# Altium schematic symbol library Converter_DCDC.SchLib: 947 symbols (part 3 of 12)
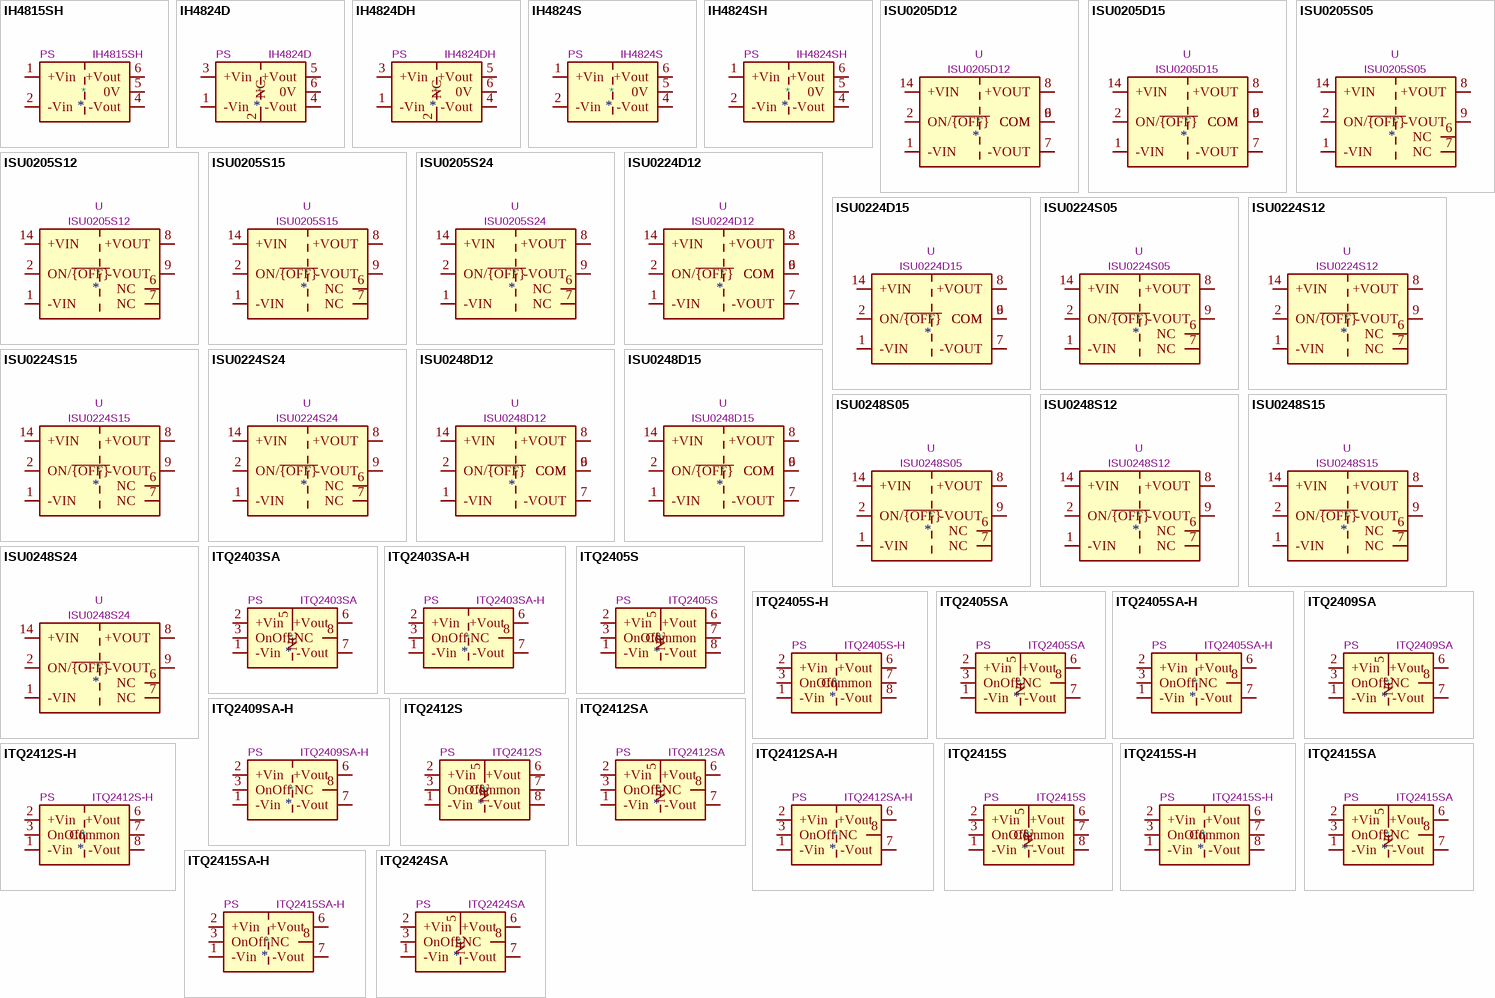
[diagram p25: symbols IH4815SH to ITQ2424SA]

## ISU0248S24
designator *  value ISU0248S24  Reference: U
XP Power 2W Isolated DC/DC Converter Module, 24V Output Voltage, 18-75V Input Voltage; ki_fp_filters: *XP?POWER*ISU02*SMD*; Footprint: Converter_DCDC:Converter_DCDC_XP_POWER-ISU02_SMD; Datasheet: https://www.xppower.com/Portals/0/pdfs/SF_ISU02.pdf; Description_: XP Power 2W Isolated DC/DC Converter Module, 24V Output Voltage, 18-75V Input Voltage; ki_keywords: DC/DC Converter
pins: 1 -VIN, 2 ON/~{{OFF}}, 6 NC, 7 NC, 8 +VOUT, 9 -VOUT, 14 +VIN

## ITQ2403SA
designator *  value ITQ2403SA  Reference: PS
XP Power 6W, 1000 VDC Isolated DC/DC Converter Module, Single Output Voltage 3.3V, ±1500mA, 24V Input Voltage, SIP; ki_keywords: XP_POWER DC/DC isolated Converter module; ki_fp_filters: *XP?POWER?ITxxxxx*; Footprint: Converter_DCDC:Converter_DCDC_XP_POWER-ITxxxxxS_THT; Datasheet: https://www.xppower.com/pdfs/SF_ITQ.pdf; Description_: XP Power 6W, 1000 VDC Isolated DC/DC Converter Module, Single Output Voltage 3.3V, ±1500mA, 24V Input Voltage, SIP
pins: 1 -Vin, 2 +Vin, 3 OnOff, 5 NC, 6 +Vout, 7 -Vout, 8 NC

## ITQ2403SA-H
designator *  value ITQ2403SA-H  Reference: PS
XP Power 6W, 3000 VDC Isolated DC/DC Converter Module, Single Output Voltage 3.3V, ±1500mA, 24V Input Voltage, SIP; ki_keywords: XP_POWER DC/DC isolated Converter module; ki_fp_filters: *XP?POWER?ITQxxxxS?H*; Footprint: Converter_DCDC:Converter_DCDC_XP_POWER-ITQxxxxS-H_THT; Datasheet: https://www.xppower.com/pdfs/SF_ITQ.pdf; Description_: XP Power 6W, 3000 VDC Isolated DC/DC Converter Module, Single Output Voltage 3.3V, ±1500mA, 24V Input Voltage, SIP
pins: 1 -Vin, 2 +Vin, 3 OnOff, 6 +Vout, 7 -Vout, 8 NC

## ITQ2405S
designator *  value ITQ2405S  Reference: PS
XP Power 6W, 1000 VDC Isolated DC/DC Converter Module, Dual Output Voltage ±5V, ±600mA, 24V Input Voltage, SIP; ki_keywords: XP_POWER DC/DC isolated Converter module; ki_fp_filters: *XP?POWER?ITxxxxx*; Footprint: Converter_DCDC:Converter_DCDC_XP_POWER-ITxxxxxS_THT; Datasheet: https://www.xppower.com/pdfs/SF_ITQ.pdf; Description_: XP Power 6W, 1000 VDC Isolated DC/DC Converter Module, Dual Output Voltage ±5V, ±600mA, 24V Input Voltage, SIP
pins: 1 -Vin, 2 +Vin, 3 OnOff, 5 NC, 6 +Vout, 7 Common, 8 -Vout

## ITQ2405S-H
designator *  value ITQ2405S-H  Reference: PS
XP Power 6W, 3000 VDC Isolated DC/DC Converter Module, Dual Output Voltage ±5V, ±600mA, 24V Input Voltage, SIP; ki_keywords: XP_POWER DC/DC isolated Converter module; ki_fp_filters: *XP?POWER?ITQxxxxS?H*; Footprint: Converter_DCDC:Converter_DCDC_XP_POWER-ITQxxxxS-H_THT; Datasheet: https://www.xppower.com/pdfs/SF_ITQ.pdf; Description_: XP Power 6W, 3000 VDC Isolated DC/DC Converter Module, Dual Output Voltage ±5V, ±600mA, 24V Input Voltage, SIP
pins: 1 -Vin, 2 +Vin, 3 OnOff, 6 +Vout, 7 Common, 8 -Vout

## ITQ2405SA
designator *  value ITQ2405SA  Reference: PS
XP Power 6W, 1000 VDC Isolated DC/DC Converter Module, Single Output Voltage 5V, ±1200mA, 24V Input Voltage, SIP; ki_keywords: XP_POWER DC/DC isolated Converter module; ki_fp_filters: *XP?POWER?ITxxxxx*; Footprint: Converter_DCDC:Converter_DCDC_XP_POWER-ITxxxxxS_THT; Datasheet: https://www.xppower.com/pdfs/SF_ITQ.pdf; Description_: XP Power 6W, 1000 VDC Isolated DC/DC Converter Module, Single Output Voltage 5V, ±1200mA, 24V Input Voltage, SIP
pins: 1 -Vin, 2 +Vin, 3 OnOff, 5 NC, 6 +Vout, 7 -Vout, 8 NC

## ITQ2405SA-H
designator *  value ITQ2405SA-H  Reference: PS
XP Power 6W, 3000 VDC Isolated DC/DC Converter Module, Single Output Voltage 5V, ±1200mA, 24V Input Voltage, SIP; ki_keywords: XP_POWER DC/DC isolated Converter module; ki_fp_filters: *XP?POWER?ITQxxxxS?H*; Footprint: Converter_DCDC:Converter_DCDC_XP_POWER-ITQxxxxS-H_THT; Datasheet: https://www.xppower.com/pdfs/SF_ITQ.pdf; Description_: XP Power 6W, 3000 VDC Isolated DC/DC Converter Module, Single Output Voltage 5V, ±1200mA, 24V Input Voltage, SIP
pins: 1 -Vin, 2 +Vin, 3 OnOff, 6 +Vout, 7 -Vout, 8 NC

## ITQ2409SA
designator *  value ITQ2409SA  Reference: PS
XP Power 6W, 1000 VDC Isolated DC/DC Converter Module, Single Output Voltage 9V, ±666mA, 24V Input Voltage, SIP; ki_keywords: XP_POWER DC/DC isolated Converter module; ki_fp_filters: *XP?POWER?ITxxxxx*; Footprint: Converter_DCDC:Converter_DCDC_XP_POWER-ITxxxxxS_THT; Datasheet: https://www.xppower.com/pdfs/SF_ITQ.pdf; Description_: XP Power 6W, 1000 VDC Isolated DC/DC Converter Module, Single Output Voltage 9V, ±666mA, 24V Input Voltage, SIP
pins: 1 -Vin, 2 +Vin, 3 OnOff, 5 NC, 6 +Vout, 7 -Vout, 8 NC

## ITQ2409SA-H
designator *  value ITQ2409SA-H  Reference: PS
XP Power 6W, 3000 VDC Isolated DC/DC Converter Module, Single Output Voltage 9V, ±666mA, 24V Input Voltage, SIP; ki_keywords: XP_POWER DC/DC isolated Converter module; ki_fp_filters: *XP?POWER?ITQxxxxS?H*; Footprint: Converter_DCDC:Converter_DCDC_XP_POWER-ITQxxxxS-H_THT; Datasheet: https://www.xppower.com/pdfs/SF_ITQ.pdf; Description_: XP Power 6W, 3000 VDC Isolated DC/DC Converter Module, Single Output Voltage 9V, ±666mA, 24V Input Voltage, SIP
pins: 1 -Vin, 2 +Vin, 3 OnOff, 6 +Vout, 7 -Vout, 8 NC

## ITQ2412S
designator *  value ITQ2412S  Reference: PS
XP Power 6W, 1000 VDC Isolated DC/DC Converter Module, Dual Output Voltage ±12V, ±250mA, 24V Input Voltage, SIP; ki_keywords: XP_POWER DC/DC isolated Converter module; ki_fp_filters: *XP?POWER?ITxxxxx*; Footprint: Converter_DCDC:Converter_DCDC_XP_POWER-ITxxxxxS_THT; Datasheet: https://www.xppower.com/pdfs/SF_ITQ.pdf; Description_: XP Power 6W, 1000 VDC Isolated DC/DC Converter Module, Dual Output Voltage ±12V, ±250mA, 24V Input Voltage, SIP
pins: 1 -Vin, 2 +Vin, 3 OnOff, 5 NC, 6 +Vout, 7 Common, 8 -Vout

## ITQ2412S-H
designator *  value ITQ2412S-H  Reference: PS
XP Power 6W, 3000 VDC Isolated DC/DC Converter Module, Dual Output Voltage ±12V, ±250mA, 24V Input Voltage, SIP; ki_keywords: XP_POWER DC/DC isolated Converter module; ki_fp_filters: *XP?POWER?ITQxxxxS?H*; Footprint: Converter_DCDC:Converter_DCDC_XP_POWER-ITQxxxxS-H_THT; Datasheet: https://www.xppower.com/pdfs/SF_ITQ.pdf; Description_: XP Power 6W, 3000 VDC Isolated DC/DC Converter Module, Dual Output Voltage ±12V, ±250mA, 24V Input Voltage, SIP
pins: 1 -Vin, 2 +Vin, 3 OnOff, 6 +Vout, 7 Common, 8 -Vout

## ITQ2412SA
designator *  value ITQ2412SA  Reference: PS
XP Power 6W, 1000 VDC Isolated DC/DC Converter Module, Single Output Voltage 12V, ±500mA, 24V Input Voltage, SIP; ki_keywords: XP_POWER DC/DC isolated Converter module; ki_fp_filters: *XP?POWER?ITxxxxx*; Footprint: Converter_DCDC:Converter_DCDC_XP_POWER-ITxxxxxS_THT; Datasheet: https://www.xppower.com/pdfs/SF_ITQ.pdf; Description_: XP Power 6W, 1000 VDC Isolated DC/DC Converter Module, Single Output Voltage 12V, ±500mA, 24V Input Voltage, SIP
pins: 1 -Vin, 2 +Vin, 3 OnOff, 5 NC, 6 +Vout, 7 -Vout, 8 NC

## ITQ2412SA-H
designator *  value ITQ2412SA-H  Reference: PS
XP Power 6W, 3000 VDC Isolated DC/DC Converter Module, Single Output Voltage 12V, ±500mA, 24V Input Voltage, SIP; ki_keywords: XP_POWER DC/DC isolated Converter module; ki_fp_filters: *XP?POWER?ITQxxxxS?H*; Footprint: Converter_DCDC:Converter_DCDC_XP_POWER-ITQxxxxS-H_THT; Datasheet: https://www.xppower.com/pdfs/SF_ITQ.pdf; Description_: XP Power 6W, 3000 VDC Isolated DC/DC Converter Module, Single Output Voltage 12V, ±500mA, 24V Input Voltage, SIP
pins: 1 -Vin, 2 +Vin, 3 OnOff, 6 +Vout, 7 -Vout, 8 NC

## ITQ2415S
designator *  value ITQ2415S  Reference: PS
XP Power 6W, 1000 VDC Isolated DC/DC Converter Module, Dual Output Voltage ±15V, ±200mA, 24V Input Voltage, SIP; ki_keywords: XP_POWER DC/DC isolated Converter module; ki_fp_filters: *XP?POWER?ITxxxxx*; Footprint: Converter_DCDC:Converter_DCDC_XP_POWER-ITxxxxxS_THT; Datasheet: https://www.xppower.com/pdfs/SF_ITQ.pdf; Description_: XP Power 6W, 1000 VDC Isolated DC/DC Converter Module, Dual Output Voltage ±15V, ±200mA, 24V Input Voltage, SIP
pins: 1 -Vin, 2 +Vin, 3 OnOff, 5 NC, 6 +Vout, 7 Common, 8 -Vout

## ITQ2415S-H
designator *  value ITQ2415S-H  Reference: PS
XP Power 6W, 3000 VDC Isolated DC/DC Converter Module, Dual Output Voltage ±15V, ±200mA, 24V Input Voltage, SIP; ki_keywords: XP_POWER DC/DC isolated Converter module; ki_fp_filters: *XP?POWER?ITQxxxxS?H*; Footprint: Converter_DCDC:Converter_DCDC_XP_POWER-ITQxxxxS-H_THT; Datasheet: https://www.xppower.com/pdfs/SF_ITQ.pdf; Description_: XP Power 6W, 3000 VDC Isolated DC/DC Converter Module, Dual Output Voltage ±15V, ±200mA, 24V Input Voltage, SIP
pins: 1 -Vin, 2 +Vin, 3 OnOff, 6 +Vout, 7 Common, 8 -Vout

## ITQ2415SA
designator *  value ITQ2415SA  Reference: PS
XP Power 6W, 1000 VDC Isolated DC/DC Converter Module, Single Output Voltage 15V, ±400mA, 24V Input Voltage, SIP; ki_keywords: XP_POWER DC/DC isolated Converter module; ki_fp_filters: *XP?POWER?ITxxxxx*; Footprint: Converter_DCDC:Converter_DCDC_XP_POWER-ITxxxxxS_THT; Datasheet: https://www.xppower.com/pdfs/SF_ITQ.pdf; Description_: XP Power 6W, 1000 VDC Isolated DC/DC Converter Module, Single Output Voltage 15V, ±400mA, 24V Input Voltage, SIP
pins: 1 -Vin, 2 +Vin, 3 OnOff, 5 NC, 6 +Vout, 7 -Vout, 8 NC

## ITQ2415SA-H
designator *  value ITQ2415SA-H  Reference: PS
XP Power 6W, 3000 VDC Isolated DC/DC Converter Module, Single Output Voltage 15V, ±400mA, 24V Input Voltage, SIP; ki_keywords: XP_POWER DC/DC isolated Converter module; ki_fp_filters: *XP?POWER?ITQxxxxS?H*; Footprint: Converter_DCDC:Converter_DCDC_XP_POWER-ITQxxxxS-H_THT; Datasheet: https://www.xppower.com/pdfs/SF_ITQ.pdf; Description_: XP Power 6W, 3000 VDC Isolated DC/DC Converter Module, Single Output Voltage 15V, ±400mA, 24V Input Voltage, SIP
pins: 1 -Vin, 2 +Vin, 3 OnOff, 6 +Vout, 7 -Vout, 8 NC

## ITQ2424SA
designator *  value ITQ2424SA  Reference: PS
XP Power 6W, 1000 VDC Isolated DC/DC Converter Module, Single Output Voltage 24V, ±250mA, 24V Input Voltage, SIP; ki_keywords: XP_POWER DC/DC isolated Converter module; ki_fp_filters: *XP?POWER?ITxxxxx*; Footprint: Converter_DCDC:Converter_DCDC_XP_POWER-ITxxxxxS_THT; Datasheet: https://www.xppower.com/pdfs/SF_ITQ.pdf; Description_: XP Power 6W, 1000 VDC Isolated DC/DC Converter Module, Single Output Voltage 24V, ±250mA, 24V Input Voltage, SIP
pins: 1 -Vin, 2 +Vin, 3 OnOff, 5 NC, 6 +Vout, 7 -Vout, 8 NC

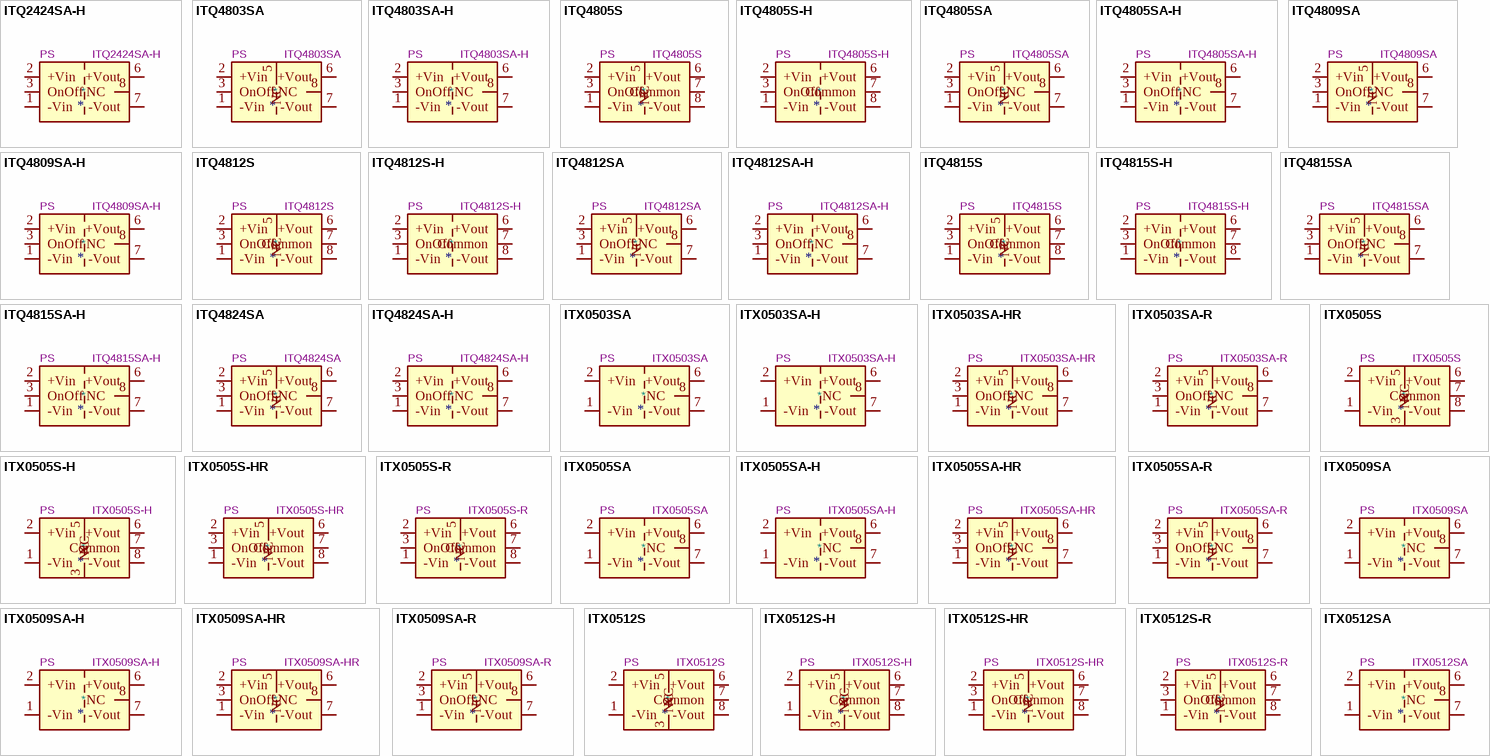
[diagram p5: symbols ITQ2424SA-H to ITX0512SA]

## ITQ2424SA-H
designator *  value ITQ2424SA-H  Reference: PS
XP Power 6W, 3000 VDC Isolated DC/DC Converter Module, Single Output Voltage 24V, ±250mA, 24V Input Voltage, SIP; ki_keywords: XP_POWER DC/DC isolated Converter module; ki_fp_filters: *XP?POWER?ITQxxxxS?H*; Footprint: Converter_DCDC:Converter_DCDC_XP_POWER-ITQxxxxS-H_THT; Datasheet: https://www.xppower.com/pdfs/SF_ITQ.pdf; Description_: XP Power 6W, 3000 VDC Isolated DC/DC Converter Module, Single Output Voltage 24V, ±250mA, 24V Input Voltage, SIP
pins: 1 -Vin, 2 +Vin, 3 OnOff, 6 +Vout, 7 -Vout, 8 NC

## ITQ4803SA
designator *  value ITQ4803SA  Reference: PS
XP Power 6W, 1000 VDC Isolated DC/DC Converter Module, Single Output Voltage 3.3V, ±1500mA, 48V Input Voltage, SIP; ki_keywords: XP_POWER DC/DC isolated Converter module; ki_fp_filters: *XP?POWER?ITxxxxx*; Footprint: Converter_DCDC:Converter_DCDC_XP_POWER-ITxxxxxS_THT; Datasheet: https://www.xppower.com/pdfs/SF_ITQ.pdf; Description_: XP Power 6W, 1000 VDC Isolated DC/DC Converter Module, Single Output Voltage 3.3V, ±1500mA, 48V Input Voltage, SIP
pins: 1 -Vin, 2 +Vin, 3 OnOff, 5 NC, 6 +Vout, 7 -Vout, 8 NC

## ITQ4803SA-H
designator *  value ITQ4803SA-H  Reference: PS
XP Power 6W, 3000 VDC Isolated DC/DC Converter Module, Single Output Voltage 3.3V, ±1500mA, 48V Input Voltage, SIP; ki_keywords: XP_POWER DC/DC isolated Converter module; ki_fp_filters: *XP?POWER?ITQxxxxS?H*; Footprint: Converter_DCDC:Converter_DCDC_XP_POWER-ITQxxxxS-H_THT; Datasheet: https://www.xppower.com/pdfs/SF_ITQ.pdf; Description_: XP Power 6W, 3000 VDC Isolated DC/DC Converter Module, Single Output Voltage 3.3V, ±1500mA, 48V Input Voltage, SIP
pins: 1 -Vin, 2 +Vin, 3 OnOff, 6 +Vout, 7 -Vout, 8 NC

## ITQ4805S
designator *  value ITQ4805S  Reference: PS
XP Power 6W, 1000 VDC Isolated DC/DC Converter Module, Dual Output Voltage ±5V, ±600mA, 48V Input Voltage, SIP; ki_keywords: XP_POWER DC/DC isolated Converter module; ki_fp_filters: *XP?POWER?ITxxxxx*; Footprint: Converter_DCDC:Converter_DCDC_XP_POWER-ITxxxxxS_THT; Datasheet: https://www.xppower.com/pdfs/SF_ITQ.pdf; Description_: XP Power 6W, 1000 VDC Isolated DC/DC Converter Module, Dual Output Voltage ±5V, ±600mA, 48V Input Voltage, SIP
pins: 1 -Vin, 2 +Vin, 3 OnOff, 5 NC, 6 +Vout, 7 Common, 8 -Vout

## ITQ4805S-H
designator *  value ITQ4805S-H  Reference: PS
XP Power 6W, 3000 VDC Isolated DC/DC Converter Module, Dual Output Voltage ±5V, ±600mA, 48V Input Voltage, SIP; ki_keywords: XP_POWER DC/DC isolated Converter module; ki_fp_filters: *XP?POWER?ITQxxxxS?H*; Footprint: Converter_DCDC:Converter_DCDC_XP_POWER-ITQxxxxS-H_THT; Datasheet: https://www.xppower.com/pdfs/SF_ITQ.pdf; Description_: XP Power 6W, 3000 VDC Isolated DC/DC Converter Module, Dual Output Voltage ±5V, ±600mA, 48V Input Voltage, SIP
pins: 1 -Vin, 2 +Vin, 3 OnOff, 6 +Vout, 7 Common, 8 -Vout

## ITQ4805SA
designator *  value ITQ4805SA  Reference: PS
XP Power 6W, 1000 VDC Isolated DC/DC Converter Module, Single Output Voltage 5V, ±1200mA, 48V Input Voltage, SIP; ki_keywords: XP_POWER DC/DC isolated Converter module; ki_fp_filters: *XP?POWER?ITxxxxx*; Footprint: Converter_DCDC:Converter_DCDC_XP_POWER-ITxxxxxS_THT; Datasheet: https://www.xppower.com/pdfs/SF_ITQ.pdf; Description_: XP Power 6W, 1000 VDC Isolated DC/DC Converter Module, Single Output Voltage 5V, ±1200mA, 48V Input Voltage, SIP
pins: 1 -Vin, 2 +Vin, 3 OnOff, 5 NC, 6 +Vout, 7 -Vout, 8 NC

## ITQ4805SA-H
designator *  value ITQ4805SA-H  Reference: PS
XP Power 6W, 3000 VDC Isolated DC/DC Converter Module, Single Output Voltage 5V, ±1200mA, 48V Input Voltage, SIP; ki_keywords: XP_POWER DC/DC isolated Converter module; ki_fp_filters: *XP?POWER?ITQxxxxS?H*; Footprint: Converter_DCDC:Converter_DCDC_XP_POWER-ITQxxxxS-H_THT; Datasheet: https://www.xppower.com/pdfs/SF_ITQ.pdf; Description_: XP Power 6W, 3000 VDC Isolated DC/DC Converter Module, Single Output Voltage 5V, ±1200mA, 48V Input Voltage, SIP
pins: 1 -Vin, 2 +Vin, 3 OnOff, 6 +Vout, 7 -Vout, 8 NC

## ITQ4809SA
designator *  value ITQ4809SA  Reference: PS
XP Power 6W, 1000 VDC Isolated DC/DC Converter Module, Single Output Voltage 9V, ±666mA, 48V Input Voltage, SIP; ki_keywords: XP_POWER DC/DC isolated Converter module; ki_fp_filters: *XP?POWER?ITxxxxx*; Footprint: Converter_DCDC:Converter_DCDC_XP_POWER-ITxxxxxS_THT; Datasheet: https://www.xppower.com/pdfs/SF_ITQ.pdf; Description_: XP Power 6W, 1000 VDC Isolated DC/DC Converter Module, Single Output Voltage 9V, ±666mA, 48V Input Voltage, SIP
pins: 1 -Vin, 2 +Vin, 3 OnOff, 5 NC, 6 +Vout, 7 -Vout, 8 NC

## ITQ4809SA-H
designator *  value ITQ4809SA-H  Reference: PS
XP Power 6W, 3000 VDC Isolated DC/DC Converter Module, Single Output Voltage 9V, ±666mA, 48V Input Voltage, SIP; ki_keywords: XP_POWER DC/DC isolated Converter module; ki_fp_filters: *XP?POWER?ITQxxxxS?H*; Footprint: Converter_DCDC:Converter_DCDC_XP_POWER-ITQxxxxS-H_THT; Datasheet: https://www.xppower.com/pdfs/SF_ITQ.pdf; Description_: XP Power 6W, 3000 VDC Isolated DC/DC Converter Module, Single Output Voltage 9V, ±666mA, 48V Input Voltage, SIP
pins: 1 -Vin, 2 +Vin, 3 OnOff, 6 +Vout, 7 -Vout, 8 NC

## ITQ4812S
designator *  value ITQ4812S  Reference: PS
XP Power 6W, 1000 VDC Isolated DC/DC Converter Module, Dual Output Voltage ±12V, ±250mA, 48V Input Voltage, SIP; ki_keywords: XP_POWER DC/DC isolated Converter module; ki_fp_filters: *XP?POWER?ITxxxxx*; Footprint: Converter_DCDC:Converter_DCDC_XP_POWER-ITxxxxxS_THT; Datasheet: https://www.xppower.com/pdfs/SF_ITQ.pdf; Description_: XP Power 6W, 1000 VDC Isolated DC/DC Converter Module, Dual Output Voltage ±12V, ±250mA, 48V Input Voltage, SIP
pins: 1 -Vin, 2 +Vin, 3 OnOff, 5 NC, 6 +Vout, 7 Common, 8 -Vout

## ITQ4812S-H
designator *  value ITQ4812S-H  Reference: PS
XP Power 6W, 3000 VDC Isolated DC/DC Converter Module, Dual Output Voltage ±12V, ±250mA, 48V Input Voltage, SIP; ki_keywords: XP_POWER DC/DC isolated Converter module; ki_fp_filters: *XP?POWER?ITQxxxxS?H*; Footprint: Converter_DCDC:Converter_DCDC_XP_POWER-ITQxxxxS-H_THT; Datasheet: https://www.xppower.com/pdfs/SF_ITQ.pdf; Description_: XP Power 6W, 3000 VDC Isolated DC/DC Converter Module, Dual Output Voltage ±12V, ±250mA, 48V Input Voltage, SIP
pins: 1 -Vin, 2 +Vin, 3 OnOff, 6 +Vout, 7 Common, 8 -Vout

## ITQ4812SA
designator *  value ITQ4812SA  Reference: PS
XP Power 6W, 1000 VDC Isolated DC/DC Converter Module, Single Output Voltage 12V, ±500mA, 48V Input Voltage, SIP; ki_keywords: XP_POWER DC/DC isolated Converter module; ki_fp_filters: *XP?POWER?ITxxxxx*; Footprint: Converter_DCDC:Converter_DCDC_XP_POWER-ITxxxxxS_THT; Datasheet: https://www.xppower.com/pdfs/SF_ITQ.pdf; Description_: XP Power 6W, 1000 VDC Isolated DC/DC Converter Module, Single Output Voltage 12V, ±500mA, 48V Input Voltage, SIP
pins: 1 -Vin, 2 +Vin, 3 OnOff, 5 NC, 6 +Vout, 7 -Vout, 8 NC

## ITQ4812SA-H
designator *  value ITQ4812SA-H  Reference: PS
XP Power 6W, 3000 VDC Isolated DC/DC Converter Module, Single Output Voltage 12V, ±500mA, 48V Input Voltage, SIP; ki_keywords: XP_POWER DC/DC isolated Converter module; ki_fp_filters: *XP?POWER?ITQxxxxS?H*; Footprint: Converter_DCDC:Converter_DCDC_XP_POWER-ITQxxxxS-H_THT; Datasheet: https://www.xppower.com/pdfs/SF_ITQ.pdf; Description_: XP Power 6W, 3000 VDC Isolated DC/DC Converter Module, Single Output Voltage 12V, ±500mA, 48V Input Voltage, SIP
pins: 1 -Vin, 2 +Vin, 3 OnOff, 6 +Vout, 7 -Vout, 8 NC

## ITQ4815S
designator *  value ITQ4815S  Reference: PS
XP Power 6W, 1000 VDC Isolated DC/DC Converter Module, Dual Output Voltage ±15V, ±200mA, 48V Input Voltage, SIP; ki_keywords: XP_POWER DC/DC isolated Converter module; ki_fp_filters: *XP?POWER?ITxxxxx*; Footprint: Converter_DCDC:Converter_DCDC_XP_POWER-ITxxxxxS_THT; Datasheet: https://www.xppower.com/pdfs/SF_ITQ.pdf; Description_: XP Power 6W, 1000 VDC Isolated DC/DC Converter Module, Dual Output Voltage ±15V, ±200mA, 48V Input Voltage, SIP
pins: 1 -Vin, 2 +Vin, 3 OnOff, 5 NC, 6 +Vout, 7 Common, 8 -Vout

## ITQ4815S-H
designator *  value ITQ4815S-H  Reference: PS
XP Power 6W, 3000 VDC Isolated DC/DC Converter Module, Dual Output Voltage ±15V, ±200mA, 48V Input Voltage, SIP; ki_keywords: XP_POWER DC/DC isolated Converter module; ki_fp_filters: *XP?POWER?ITQxxxxS?H*; Footprint: Converter_DCDC:Converter_DCDC_XP_POWER-ITQxxxxS-H_THT; Datasheet: https://www.xppower.com/pdfs/SF_ITQ.pdf; Description_: XP Power 6W, 3000 VDC Isolated DC/DC Converter Module, Dual Output Voltage ±15V, ±200mA, 48V Input Voltage, SIP
pins: 1 -Vin, 2 +Vin, 3 OnOff, 6 +Vout, 7 Common, 8 -Vout

## ITQ4815SA
designator *  value ITQ4815SA  Reference: PS
XP Power 6W, 1000 VDC Isolated DC/DC Converter Module, Single Output Voltage 15V, ±400mA, 48V Input Voltage, SIP; ki_keywords: XP_POWER DC/DC isolated Converter module; ki_fp_filters: *XP?POWER?ITxxxxx*; Footprint: Converter_DCDC:Converter_DCDC_XP_POWER-ITxxxxxS_THT; Datasheet: https://www.xppower.com/pdfs/SF_ITQ.pdf; Description_: XP Power 6W, 1000 VDC Isolated DC/DC Converter Module, Single Output Voltage 15V, ±400mA, 48V Input Voltage, SIP
pins: 1 -Vin, 2 +Vin, 3 OnOff, 5 NC, 6 +Vout, 7 -Vout, 8 NC

## ITQ4815SA-H
designator *  value ITQ4815SA-H  Reference: PS
XP Power 6W, 3000 VDC Isolated DC/DC Converter Module, Single Output Voltage 15V, ±400mA, 48V Input Voltage, SIP; ki_keywords: XP_POWER DC/DC isolated Converter module; ki_fp_filters: *XP?POWER?ITQxxxxS?H*; Footprint: Converter_DCDC:Converter_DCDC_XP_POWER-ITQxxxxS-H_THT; Datasheet: https://www.xppower.com/pdfs/SF_ITQ.pdf; Description_: XP Power 6W, 3000 VDC Isolated DC/DC Converter Module, Single Output Voltage 15V, ±400mA, 48V Input Voltage, SIP
pins: 1 -Vin, 2 +Vin, 3 OnOff, 6 +Vout, 7 -Vout, 8 NC

## ITQ4824SA
designator *  value ITQ4824SA  Reference: PS
XP Power 6W, 1000 VDC Isolated DC/DC Converter Module, Single Output Voltage 24V, ±250mA, 48V Input Voltage, SIP; ki_keywords: XP_POWER DC/DC isolated Converter module; ki_fp_filters: *XP?POWER?ITxxxxx*; Footprint: Converter_DCDC:Converter_DCDC_XP_POWER-ITxxxxxS_THT; Datasheet: https://www.xppower.com/pdfs/SF_ITQ.pdf; Description_: XP Power 6W, 1000 VDC Isolated DC/DC Converter Module, Single Output Voltage 24V, ±250mA, 48V Input Voltage, SIP
pins: 1 -Vin, 2 +Vin, 3 OnOff, 5 NC, 6 +Vout, 7 -Vout, 8 NC

## ITQ4824SA-H
designator *  value ITQ4824SA-H  Reference: PS
XP Power 6W, 3000 VDC Isolated DC/DC Converter Module, Single Output Voltage 24V, ±250mA, 48V Input Voltage, SIP; ki_keywords: XP_POWER DC/DC isolated Converter module; ki_fp_filters: *XP?POWER?ITQxxxxS?H*; Footprint: Converter_DCDC:Converter_DCDC_XP_POWER-ITQxxxxS-H_THT; Datasheet: https://www.xppower.com/pdfs/SF_ITQ.pdf; Description_: XP Power 6W, 3000 VDC Isolated DC/DC Converter Module, Single Output Voltage 24V, ±250mA, 48V Input Voltage, SIP
pins: 1 -Vin, 2 +Vin, 3 OnOff, 6 +Vout, 7 -Vout, 8 NC

## ITX0503SA
designator *  value ITX0503SA  Reference: PS
XP Power 6W, 1000 VDC Isolated DC/DC Converter Module, Fully Regulated Single Output Voltage 3.3V, ±1300mA, 5V Input Voltage, SIP; ki_keywords: XP_POWER DC/DC isolated Converter module; ki_fp_filters: *XP?POWER?ITXxxxxSA*; Footprint: Converter_DCDC:Converter_DCDC_XP_POWER-ITXxxxxSA_THT; Datasheet: https://www.xppower.com/pdfs/SF_ITX.pdf; Description_: XP Power 6W, 1000 VDC Isolated DC/DC Converter Module, Fully Regulated Single Output Voltage 3.3V, ±1300mA, 5V Input Voltage, SIP
pins: 1 -Vin, 2 +Vin, 6 +Vout, 7 -Vout, 8 NC

## ITX0503SA-H
designator *  value ITX0503SA-H  Reference: PS
XP Power 6W, 3000 VDC Isolated DC/DC Converter Module, Fully Regulated Single Output Voltage 3.3V, ±1300mA, 5V Input Voltage, SIP; ki_keywords: XP_POWER DC/DC isolated Converter module; ki_fp_filters: *XP?POWER?ITXxxxxSA*; Footprint: Converter_DCDC:Converter_DCDC_XP_POWER-ITXxxxxSA_THT; Datasheet: https://www.xppower.com/pdfs/SF_ITX.pdf; Description_: XP Power 6W, 3000 VDC Isolated DC/DC Converter Module, Fully Regulated Single Output Voltage 3.3V, ±1300mA, 5V Input Voltage, SIP
pins: 1 -Vin, 2 +Vin, 6 +Vout, 7 -Vout, 8 NC

## ITX0503SA-HR
designator *  value ITX0503SA-HR  Reference: PS
XP Power 6W, 3000 VDC Isolated DC/DC Converter Module, Remote Control, Fully Regulated Single Output Voltage 3.3V, ±1300mA, 5V Input Voltage, SIP; ki_keywords: XP_POWER DC/DC isolated Converter module; ki_fp_filters: *XP?POWER?ITxxxxx*; Footprint: Converter_DCDC:Converter_DCDC_XP_POWER-ITxxxxxS_THT; Datasheet: https://www.xppower.com/pdfs/SF_ITX.pdf; Description_: XP Power 6W, 3000 VDC Isolated DC/DC Converter Module, Remote Control, Fully Regulated Single Output Voltage 3.3V, ±1300mA, 5V Input Voltage, SIP
pins: 1 -Vin, 2 +Vin, 3 OnOff, 5 NC, 6 +Vout, 7 -Vout, 8 NC

## ITX0503SA-R
designator *  value ITX0503SA-R  Reference: PS
XP Power 6W, 1000 VDC Isolated DC/DC Converter Module, Remote Control, Fully Regulated Single Output Voltage 3.3V, ±1300mA, 5V Input Voltage, SIP; ki_keywords: XP_POWER DC/DC isolated Converter module; ki_fp_filters: *XP?POWER?ITxxxxx*; Footprint: Converter_DCDC:Converter_DCDC_XP_POWER-ITxxxxxS_THT; Datasheet: https://www.xppower.com/pdfs/SF_ITX.pdf; Description_: XP Power 6W, 1000 VDC Isolated DC/DC Converter Module, Remote Control, Fully Regulated Single Output Voltage 3.3V, ±1300mA, 5V Input Voltage, SIP
pins: 1 -Vin, 2 +Vin, 3 OnOff, 5 NC, 6 +Vout, 7 -Vout, 8 NC

## ITX0505S
designator *  value ITX0505S  Reference: PS
XP Power 6W, 1000 VDC Isolated DC/DC Converter Module, Fully Regulated Dual Output Voltage ±5V, ±600mA, 5V Input Voltage, SIP; ki_keywords: XP_POWER DC/DC isolated Converter module; ki_fp_filters: *XP?POWER?ITxxxxx*; Footprint: Converter_DCDC:Converter_DCDC_XP_POWER-ITxxxxxS_THT; Datasheet: https://www.xppower.com/pdfs/SF_ITX.pdf; Description_: XP Power 6W, 1000 VDC Isolated DC/DC Converter Module, Fully Regulated Dual Output Voltage ±5V, ±600mA, 5V Input Voltage, SIP
pins: 1 -Vin, 2 +Vin, 3 NC, 5 NC, 6 +Vout, 7 Common, 8 -Vout

## ITX0505S-H
designator *  value ITX0505S-H  Reference: PS
XP Power 6W, 3000 VDC Isolated DC/DC Converter Module, Fully Regulated Dual Output Voltage ±5V, ±600mA, 5V Input Voltage, SIP; ki_keywords: XP_POWER DC/DC isolated Converter module; ki_fp_filters: *XP?POWER?ITxxxxx*; Footprint: Converter_DCDC:Converter_DCDC_XP_POWER-ITxxxxxS_THT; Datasheet: https://www.xppower.com/pdfs/SF_ITX.pdf; Description_: XP Power 6W, 3000 VDC Isolated DC/DC Converter Module, Fully Regulated Dual Output Voltage ±5V, ±600mA, 5V Input Voltage, SIP
pins: 1 -Vin, 2 +Vin, 3 NC, 5 NC, 6 +Vout, 7 Common, 8 -Vout

## ITX0505S-HR
designator *  value ITX0505S-HR  Reference: PS
XP Power 6W, 3000 VDC Isolated DC/DC Converter Module, Remote Control, Fully Regulated Dual Output Voltage ±5V, ±600mA, 5V Input Voltage, SIP; ki_keywords: XP_POWER DC/DC isolated Converter module; ki_fp_filters: *XP?POWER?ITxxxxx*; Footprint: Converter_DCDC:Converter_DCDC_XP_POWER-ITxxxxxS_THT; Datasheet: https://www.xppower.com/pdfs/SF_ITX.pdf; Description_: XP Power 6W, 3000 VDC Isolated DC/DC Converter Module, Remote Control, Fully Regulated Dual Output Voltage ±5V, ±600mA, 5V Input Voltage, SIP
pins: 1 -Vin, 2 +Vin, 3 OnOff, 5 NC, 6 +Vout, 7 Common, 8 -Vout

## ITX0505S-R
designator *  value ITX0505S-R  Reference: PS
XP Power 6W, 1000 VDC Isolated DC/DC Converter Module, Remote Control, Fully Regulated Dual Output Voltage ±5V, ±600mA, 5V Input Voltage, SIP; ki_keywords: XP_POWER DC/DC isolated Converter module; ki_fp_filters: *XP?POWER?ITxxxxx*; Footprint: Converter_DCDC:Converter_DCDC_XP_POWER-ITxxxxxS_THT; Datasheet: https://www.xppower.com/pdfs/SF_ITX.pdf; Description_: XP Power 6W, 1000 VDC Isolated DC/DC Converter Module, Remote Control, Fully Regulated Dual Output Voltage ±5V, ±600mA, 5V Input Voltage, SIP
pins: 1 -Vin, 2 +Vin, 3 OnOff, 5 NC, 6 +Vout, 7 Common, 8 -Vout

## ITX0505SA
designator *  value ITX0505SA  Reference: PS
XP Power 6W, 1000 VDC Isolated DC/DC Converter Module, Fully Regulated Single Output Voltage 5V, ±1200mA, 5V Input Voltage, SIP; ki_keywords: XP_POWER DC/DC isolated Converter module; ki_fp_filters: *XP?POWER?ITXxxxxSA*; Footprint: Converter_DCDC:Converter_DCDC_XP_POWER-ITXxxxxSA_THT; Datasheet: https://www.xppower.com/pdfs/SF_ITX.pdf; Description_: XP Power 6W, 1000 VDC Isolated DC/DC Converter Module, Fully Regulated Single Output Voltage 5V, ±1200mA, 5V Input Voltage, SIP
pins: 1 -Vin, 2 +Vin, 6 +Vout, 7 -Vout, 8 NC

## ITX0505SA-H
designator *  value ITX0505SA-H  Reference: PS
XP Power 6W, 3000 VDC Isolated DC/DC Converter Module, Fully Regulated Single Output Voltage 5V, ±1200mA, 5V Input Voltage, SIP; ki_keywords: XP_POWER DC/DC isolated Converter module; ki_fp_filters: *XP?POWER?ITXxxxxSA*; Footprint: Converter_DCDC:Converter_DCDC_XP_POWER-ITXxxxxSA_THT; Datasheet: https://www.xppower.com/pdfs/SF_ITX.pdf; Description_: XP Power 6W, 3000 VDC Isolated DC/DC Converter Module, Fully Regulated Single Output Voltage 5V, ±1200mA, 5V Input Voltage, SIP
pins: 1 -Vin, 2 +Vin, 6 +Vout, 7 -Vout, 8 NC

## ITX0505SA-HR
designator *  value ITX0505SA-HR  Reference: PS
XP Power 6W, 3000 VDC Isolated DC/DC Converter Module, Remote Control, Fully Regulated Single Output Voltage 5V, ±1200mA, 5V Input Voltage, SIP; ki_keywords: XP_POWER DC/DC isolated Converter module; ki_fp_filters: *XP?POWER?ITxxxxx*; Footprint: Converter_DCDC:Converter_DCDC_XP_POWER-ITxxxxxS_THT; Datasheet: https://www.xppower.com/pdfs/SF_ITX.pdf; Description_: XP Power 6W, 3000 VDC Isolated DC/DC Converter Module, Remote Control, Fully Regulated Single Output Voltage 5V, ±1200mA, 5V Input Voltage, SIP
pins: 1 -Vin, 2 +Vin, 3 OnOff, 5 NC, 6 +Vout, 7 -Vout, 8 NC

## ITX0505SA-R
designator *  value ITX0505SA-R  Reference: PS
XP Power 6W, 1000 VDC Isolated DC/DC Converter Module, Remote Control, Fully Regulated Single Output Voltage 5V, ±1200mA, 5V Input Voltage, SIP; ki_keywords: XP_POWER DC/DC isolated Converter module; ki_fp_filters: *XP?POWER?ITxxxxx*; Footprint: Converter_DCDC:Converter_DCDC_XP_POWER-ITxxxxxS_THT; Datasheet: https://www.xppower.com/pdfs/SF_ITX.pdf; Description_: XP Power 6W, 1000 VDC Isolated DC/DC Converter Module, Remote Control, Fully Regulated Single Output Voltage 5V, ±1200mA, 5V Input Voltage, SIP
pins: 1 -Vin, 2 +Vin, 3 OnOff, 5 NC, 6 +Vout, 7 -Vout, 8 NC

## ITX0509SA
designator *  value ITX0509SA  Reference: PS
XP Power 6W, 1000 VDC Isolated DC/DC Converter Module, Fully Regulated Single Output Voltage 9V, ±666mA, 5V Input Voltage, SIP; ki_keywords: XP_POWER DC/DC isolated Converter module; ki_fp_filters: *XP?POWER?ITXxxxxSA*; Footprint: Converter_DCDC:Converter_DCDC_XP_POWER-ITXxxxxSA_THT; Datasheet: https://www.xppower.com/pdfs/SF_ITX.pdf; Description_: XP Power 6W, 1000 VDC Isolated DC/DC Converter Module, Fully Regulated Single Output Voltage 9V, ±666mA, 5V Input Voltage, SIP
pins: 1 -Vin, 2 +Vin, 6 +Vout, 7 -Vout, 8 NC

## ITX0509SA-H
designator *  value ITX0509SA-H  Reference: PS
XP Power 6W, 3000 VDC Isolated DC/DC Converter Module, Fully Regulated Single Output Voltage 9V, ±666mA, 5V Input Voltage, SIP; ki_keywords: XP_POWER DC/DC isolated Converter module; ki_fp_filters: *XP?POWER?ITXxxxxSA*; Footprint: Converter_DCDC:Converter_DCDC_XP_POWER-ITXxxxxSA_THT; Datasheet: https://www.xppower.com/pdfs/SF_ITX.pdf; Description_: XP Power 6W, 3000 VDC Isolated DC/DC Converter Module, Fully Regulated Single Output Voltage 9V, ±666mA, 5V Input Voltage, SIP
pins: 1 -Vin, 2 +Vin, 6 +Vout, 7 -Vout, 8 NC

## ITX0509SA-HR
designator *  value ITX0509SA-HR  Reference: PS
XP Power 6W, 3000 VDC Isolated DC/DC Converter Module, Remote Control, Fully Regulated Single Output Voltage 9V, ±666mA, 5V Input Voltage, SIP; ki_keywords: XP_POWER DC/DC isolated Converter module; ki_fp_filters: *XP?POWER?ITxxxxx*; Footprint: Converter_DCDC:Converter_DCDC_XP_POWER-ITxxxxxS_THT; Datasheet: https://www.xppower.com/pdfs/SF_ITX.pdf; Description_: XP Power 6W, 3000 VDC Isolated DC/DC Converter Module, Remote Control, Fully Regulated Single Output Voltage 9V, ±666mA, 5V Input Voltage, SIP
pins: 1 -Vin, 2 +Vin, 3 OnOff, 5 NC, 6 +Vout, 7 -Vout, 8 NC

## ITX0509SA-R
designator *  value ITX0509SA-R  Reference: PS
XP Power 6W, 1000 VDC Isolated DC/DC Converter Module, Remote Control, Fully Regulated Single Output Voltage 9V, ±666mA, 5V Input Voltage, SIP; ki_keywords: XP_POWER DC/DC isolated Converter module; ki_fp_filters: *XP?POWER?ITxxxxx*; Footprint: Converter_DCDC:Converter_DCDC_XP_POWER-ITxxxxxS_THT; Datasheet: https://www.xppower.com/pdfs/SF_ITX.pdf; Description_: XP Power 6W, 1000 VDC Isolated DC/DC Converter Module, Remote Control, Fully Regulated Single Output Voltage 9V, ±666mA, 5V Input Voltage, SIP
pins: 1 -Vin, 2 +Vin, 3 OnOff, 5 NC, 6 +Vout, 7 -Vout, 8 NC

## ITX0512S
designator *  value ITX0512S  Reference: PS
XP Power 6W, 1000 VDC Isolated DC/DC Converter Module, Fully Regulated Dual Output Voltage ±12V, ±250mA, 5V Input Voltage, SIP; ki_keywords: XP_POWER DC/DC isolated Converter module; ki_fp_filters: *XP?POWER?ITxxxxx*; Footprint: Converter_DCDC:Converter_DCDC_XP_POWER-ITxxxxxS_THT; Datasheet: https://www.xppower.com/pdfs/SF_ITX.pdf; Description_: XP Power 6W, 1000 VDC Isolated DC/DC Converter Module, Fully Regulated Dual Output Voltage ±12V, ±250mA, 5V Input Voltage, SIP
pins: 1 -Vin, 2 +Vin, 3 NC, 5 NC, 6 +Vout, 7 Common, 8 -Vout

## ITX0512S-H
designator *  value ITX0512S-H  Reference: PS
XP Power 6W, 3000 VDC Isolated DC/DC Converter Module, Fully Regulated Dual Output Voltage ±12V, ±250mA, 5V Input Voltage, SIP; ki_keywords: XP_POWER DC/DC isolated Converter module; ki_fp_filters: *XP?POWER?ITxxxxx*; Footprint: Converter_DCDC:Converter_DCDC_XP_POWER-ITxxxxxS_THT; Datasheet: https://www.xppower.com/pdfs/SF_ITX.pdf; Description_: XP Power 6W, 3000 VDC Isolated DC/DC Converter Module, Fully Regulated Dual Output Voltage ±12V, ±250mA, 5V Input Voltage, SIP
pins: 1 -Vin, 2 +Vin, 3 NC, 5 NC, 6 +Vout, 7 Common, 8 -Vout

## ITX0512S-HR
designator *  value ITX0512S-HR  Reference: PS
XP Power 6W, 3000 VDC Isolated DC/DC Converter Module, Remote Control, Fully Regulated Dual Output Voltage ±12V, ±250mA, 5V Input Voltage, SIP; ki_keywords: XP_POWER DC/DC isolated Converter module; ki_fp_filters: *XP?POWER?ITxxxxx*; Footprint: Converter_DCDC:Converter_DCDC_XP_POWER-ITxxxxxS_THT; Datasheet: https://www.xppower.com/pdfs/SF_ITX.pdf; Description_: XP Power 6W, 3000 VDC Isolated DC/DC Converter Module, Remote Control, Fully Regulated Dual Output Voltage ±12V, ±250mA, 5V Input Voltage, SIP
pins: 1 -Vin, 2 +Vin, 3 OnOff, 5 NC, 6 +Vout, 7 Common, 8 -Vout

## ITX0512S-R
designator *  value ITX0512S-R  Reference: PS
XP Power 6W, 1000 VDC Isolated DC/DC Converter Module, Remote Control, Fully Regulated Dual Output Voltage ±12V, ±250mA, 5V Input Voltage, SIP; ki_keywords: XP_POWER DC/DC isolated Converter module; ki_fp_filters: *XP?POWER?ITxxxxx*; Footprint: Converter_DCDC:Converter_DCDC_XP_POWER-ITxxxxxS_THT; Datasheet: https://www.xppower.com/pdfs/SF_ITX.pdf; Description_: XP Power 6W, 1000 VDC Isolated DC/DC Converter Module, Remote Control, Fully Regulated Dual Output Voltage ±12V, ±250mA, 5V Input Voltage, SIP
pins: 1 -Vin, 2 +Vin, 3 OnOff, 5 NC, 6 +Vout, 7 Common, 8 -Vout

## ITX0512SA
designator *  value ITX0512SA  Reference: PS
XP Power 6W, 1000 VDC Isolated DC/DC Converter Module, Fully Regulated Single Output Voltage 12V, ±500mA, 5V Input Voltage, SIP; ki_keywords: XP_POWER DC/DC isolated Converter module; ki_fp_filters: *XP?POWER?ITXxxxxSA*; Footprint: Converter_DCDC:Converter_DCDC_XP_POWER-ITXxxxxSA_THT; Datasheet: https://www.xppower.com/pdfs/SF_ITX.pdf; Description_: XP Power 6W, 1000 VDC Isolated DC/DC Converter Module, Fully Regulated Single Output Voltage 12V, ±500mA, 5V Input Voltage, SIP
pins: 1 -Vin, 2 +Vin, 6 +Vout, 7 -Vout, 8 NC

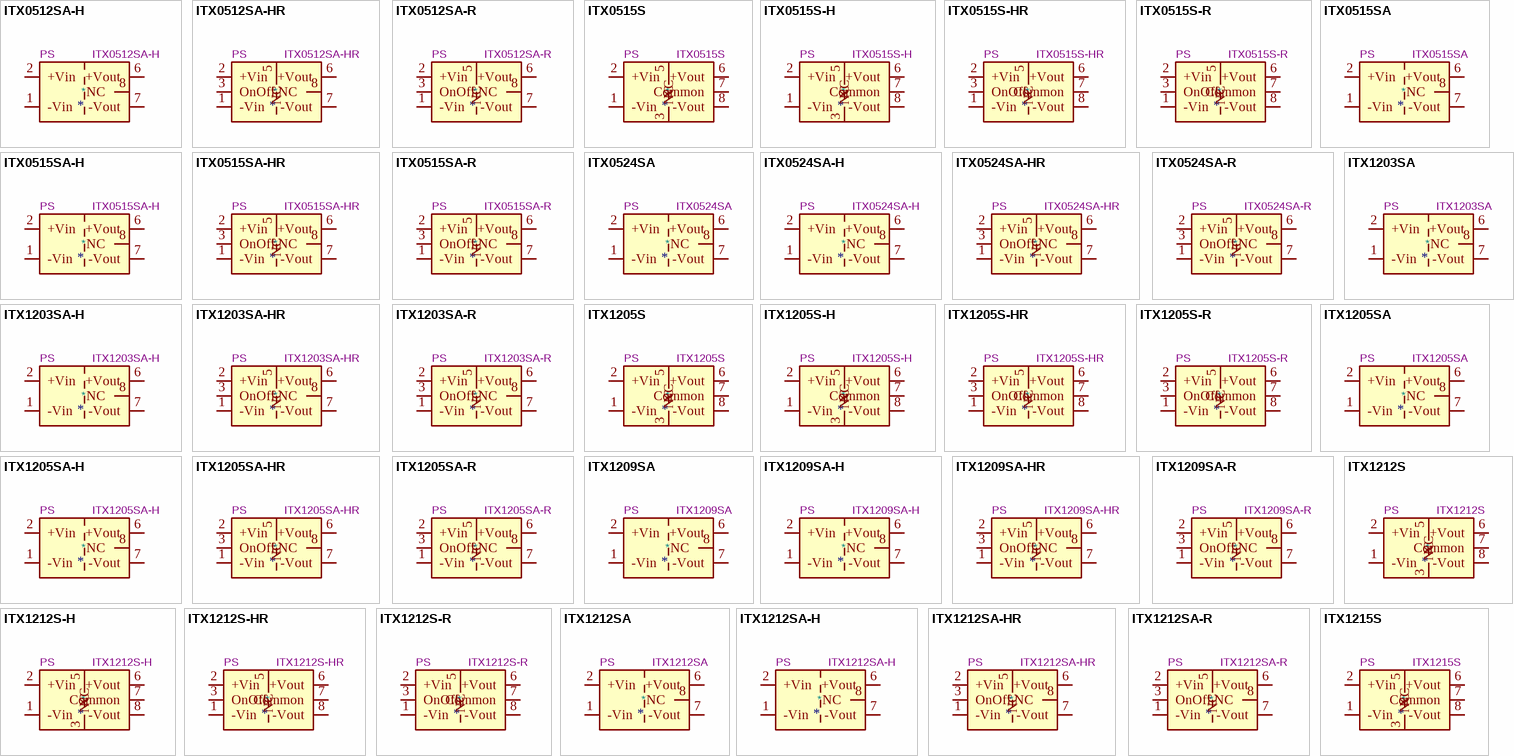
[diagram p6: symbols ITX0512SA-H to ITX1215S]

## ITX0512SA-H
designator *  value ITX0512SA-H  Reference: PS
XP Power 6W, 3000 VDC Isolated DC/DC Converter Module, Fully Regulated Single Output Voltage 12V, ±500mA, 5V Input Voltage, SIP; ki_keywords: XP_POWER DC/DC isolated Converter module; ki_fp_filters: *XP?POWER?ITXxxxxSA*; Footprint: Converter_DCDC:Converter_DCDC_XP_POWER-ITXxxxxSA_THT; Datasheet: https://www.xppower.com/pdfs/SF_ITX.pdf; Description_: XP Power 6W, 3000 VDC Isolated DC/DC Converter Module, Fully Regulated Single Output Voltage 12V, ±500mA, 5V Input Voltage, SIP
pins: 1 -Vin, 2 +Vin, 6 +Vout, 7 -Vout, 8 NC

## ITX0512SA-HR
designator *  value ITX0512SA-HR  Reference: PS
XP Power 6W, 3000 VDC Isolated DC/DC Converter Module, Remote Control, Fully Regulated Single Output Voltage 12V, ±500mA, 5V Input Voltage, SIP; ki_keywords: XP_POWER DC/DC isolated Converter module; ki_fp_filters: *XP?POWER?ITxxxxx*; Footprint: Converter_DCDC:Converter_DCDC_XP_POWER-ITxxxxxS_THT; Datasheet: https://www.xppower.com/pdfs/SF_ITX.pdf; Description_: XP Power 6W, 3000 VDC Isolated DC/DC Converter Module, Remote Control, Fully Regulated Single Output Voltage 12V, ±500mA, 5V Input Voltage, SIP
pins: 1 -Vin, 2 +Vin, 3 OnOff, 5 NC, 6 +Vout, 7 -Vout, 8 NC

## ITX0512SA-R
designator *  value ITX0512SA-R  Reference: PS
XP Power 6W, 1000 VDC Isolated DC/DC Converter Module, Remote Control, Fully Regulated Single Output Voltage 12V, ±500mA, 5V Input Voltage, SIP; ki_keywords: XP_POWER DC/DC isolated Converter module; ki_fp_filters: *XP?POWER?ITxxxxx*; Footprint: Converter_DCDC:Converter_DCDC_XP_POWER-ITxxxxxS_THT; Datasheet: https://www.xppower.com/pdfs/SF_ITX.pdf; Description_: XP Power 6W, 1000 VDC Isolated DC/DC Converter Module, Remote Control, Fully Regulated Single Output Voltage 12V, ±500mA, 5V Input Voltage, SIP
pins: 1 -Vin, 2 +Vin, 3 OnOff, 5 NC, 6 +Vout, 7 -Vout, 8 NC

## ITX0515S
designator *  value ITX0515S  Reference: PS
XP Power 6W, 1000 VDC Isolated DC/DC Converter Module, Fully Regulated Dual Output Voltage ±15V, ±200mA, 5V Input Voltage, SIP; ki_keywords: XP_POWER DC/DC isolated Converter module; ki_fp_filters: *XP?POWER?ITxxxxx*; Footprint: Converter_DCDC:Converter_DCDC_XP_POWER-ITxxxxxS_THT; Datasheet: https://www.xppower.com/pdfs/SF_ITX.pdf; Description_: XP Power 6W, 1000 VDC Isolated DC/DC Converter Module, Fully Regulated Dual Output Voltage ±15V, ±200mA, 5V Input Voltage, SIP
pins: 1 -Vin, 2 +Vin, 3 NC, 5 NC, 6 +Vout, 7 Common, 8 -Vout

## ITX0515S-H
designator *  value ITX0515S-H  Reference: PS
XP Power 6W, 3000 VDC Isolated DC/DC Converter Module, Fully Regulated Dual Output Voltage ±15V, ±200mA, 5V Input Voltage, SIP; ki_keywords: XP_POWER DC/DC isolated Converter module; ki_fp_filters: *XP?POWER?ITxxxxx*; Footprint: Converter_DCDC:Converter_DCDC_XP_POWER-ITxxxxxS_THT; Datasheet: https://www.xppower.com/pdfs/SF_ITX.pdf; Description_: XP Power 6W, 3000 VDC Isolated DC/DC Converter Module, Fully Regulated Dual Output Voltage ±15V, ±200mA, 5V Input Voltage, SIP
pins: 1 -Vin, 2 +Vin, 3 NC, 5 NC, 6 +Vout, 7 Common, 8 -Vout

## ITX0515S-HR
designator *  value ITX0515S-HR  Reference: PS
XP Power 6W, 3000 VDC Isolated DC/DC Converter Module, Remote Control, Fully Regulated Dual Output Voltage ±15V, ±200mA, 5V Input Voltage, SIP; ki_keywords: XP_POWER DC/DC isolated Converter module; ki_fp_filters: *XP?POWER?ITxxxxx*; Footprint: Converter_DCDC:Converter_DCDC_XP_POWER-ITxxxxxS_THT; Datasheet: https://www.xppower.com/pdfs/SF_ITX.pdf; Description_: XP Power 6W, 3000 VDC Isolated DC/DC Converter Module, Remote Control, Fully Regulated Dual Output Voltage ±15V, ±200mA, 5V Input Voltage, SIP
pins: 1 -Vin, 2 +Vin, 3 OnOff, 5 NC, 6 +Vout, 7 Common, 8 -Vout

## ITX0515S-R
designator *  value ITX0515S-R  Reference: PS
XP Power 6W, 1000 VDC Isolated DC/DC Converter Module, Remote Control, Fully Regulated Dual Output Voltage ±15V, ±200mA, 5V Input Voltage, SIP; ki_keywords: XP_POWER DC/DC isolated Converter module; ki_fp_filters: *XP?POWER?ITxxxxx*; Footprint: Converter_DCDC:Converter_DCDC_XP_POWER-ITxxxxxS_THT; Datasheet: https://www.xppower.com/pdfs/SF_ITX.pdf; Description_: XP Power 6W, 1000 VDC Isolated DC/DC Converter Module, Remote Control, Fully Regulated Dual Output Voltage ±15V, ±200mA, 5V Input Voltage, SIP
pins: 1 -Vin, 2 +Vin, 3 OnOff, 5 NC, 6 +Vout, 7 Common, 8 -Vout

## ITX0515SA
designator *  value ITX0515SA  Reference: PS
XP Power 6W, 1000 VDC Isolated DC/DC Converter Module, Fully Regulated Single Output Voltage 15V, ±400mA, 5V Input Voltage, SIP; ki_keywords: XP_POWER DC/DC isolated Converter module; ki_fp_filters: *XP?POWER?ITXxxxxSA*; Footprint: Converter_DCDC:Converter_DCDC_XP_POWER-ITXxxxxSA_THT; Datasheet: https://www.xppower.com/pdfs/SF_ITX.pdf; Description_: XP Power 6W, 1000 VDC Isolated DC/DC Converter Module, Fully Regulated Single Output Voltage 15V, ±400mA, 5V Input Voltage, SIP
pins: 1 -Vin, 2 +Vin, 6 +Vout, 7 -Vout, 8 NC

## ITX0515SA-H
designator *  value ITX0515SA-H  Reference: PS
XP Power 6W, 3000 VDC Isolated DC/DC Converter Module, Fully Regulated Single Output Voltage 15V, ±400mA, 5V Input Voltage, SIP; ki_keywords: XP_POWER DC/DC isolated Converter module; ki_fp_filters: *XP?POWER?ITXxxxxSA*; Footprint: Converter_DCDC:Converter_DCDC_XP_POWER-ITXxxxxSA_THT; Datasheet: https://www.xppower.com/pdfs/SF_ITX.pdf; Description_: XP Power 6W, 3000 VDC Isolated DC/DC Converter Module, Fully Regulated Single Output Voltage 15V, ±400mA, 5V Input Voltage, SIP
pins: 1 -Vin, 2 +Vin, 6 +Vout, 7 -Vout, 8 NC

## ITX0515SA-HR
designator *  value ITX0515SA-HR  Reference: PS
XP Power 6W, 3000 VDC Isolated DC/DC Converter Module, Remote Control, Fully Regulated Single Output Voltage 15V, ±400mA, 5V Input Voltage, SIP; ki_keywords: XP_POWER DC/DC isolated Converter module; ki_fp_filters: *XP?POWER?ITxxxxx*; Footprint: Converter_DCDC:Converter_DCDC_XP_POWER-ITxxxxxS_THT; Datasheet: https://www.xppower.com/pdfs/SF_ITX.pdf; Description_: XP Power 6W, 3000 VDC Isolated DC/DC Converter Module, Remote Control, Fully Regulated Single Output Voltage 15V, ±400mA, 5V Input Voltage, SIP
pins: 1 -Vin, 2 +Vin, 3 OnOff, 5 NC, 6 +Vout, 7 -Vout, 8 NC

## ITX0515SA-R
designator *  value ITX0515SA-R  Reference: PS
XP Power 6W, 1000 VDC Isolated DC/DC Converter Module, Remote Control, Fully Regulated Single Output Voltage 15V, ±400mA, 5V Input Voltage, SIP; ki_keywords: XP_POWER DC/DC isolated Converter module; ki_fp_filters: *XP?POWER?ITxxxxx*; Footprint: Converter_DCDC:Converter_DCDC_XP_POWER-ITxxxxxS_THT; Datasheet: https://www.xppower.com/pdfs/SF_ITX.pdf; Description_: XP Power 6W, 1000 VDC Isolated DC/DC Converter Module, Remote Control, Fully Regulated Single Output Voltage 15V, ±400mA, 5V Input Voltage, SIP
pins: 1 -Vin, 2 +Vin, 3 OnOff, 5 NC, 6 +Vout, 7 -Vout, 8 NC

## ITX0524SA
designator *  value ITX0524SA  Reference: PS
XP Power 6W, 1000 VDC Isolated DC/DC Converter Module, Fully Regulated Single Output Voltage 24V, ±250mA, 5V Input Voltage, SIP; ki_keywords: XP_POWER DC/DC isolated Converter module; ki_fp_filters: *XP?POWER?ITXxxxxSA*; Footprint: Converter_DCDC:Converter_DCDC_XP_POWER-ITXxxxxSA_THT; Datasheet: https://www.xppower.com/pdfs/SF_ITX.pdf; Description_: XP Power 6W, 1000 VDC Isolated DC/DC Converter Module, Fully Regulated Single Output Voltage 24V, ±250mA, 5V Input Voltage, SIP
pins: 1 -Vin, 2 +Vin, 6 +Vout, 7 -Vout, 8 NC

## ITX0524SA-H
designator *  value ITX0524SA-H  Reference: PS
XP Power 6W, 3000 VDC Isolated DC/DC Converter Module, Fully Regulated Single Output Voltage 24V, ±250mA, 5V Input Voltage, SIP; ki_keywords: XP_POWER DC/DC isolated Converter module; ki_fp_filters: *XP?POWER?ITXxxxxSA*; Footprint: Converter_DCDC:Converter_DCDC_XP_POWER-ITXxxxxSA_THT; Datasheet: https://www.xppower.com/pdfs/SF_ITX.pdf; Description_: XP Power 6W, 3000 VDC Isolated DC/DC Converter Module, Fully Regulated Single Output Voltage 24V, ±250mA, 5V Input Voltage, SIP
pins: 1 -Vin, 2 +Vin, 6 +Vout, 7 -Vout, 8 NC

## ITX0524SA-HR
designator *  value ITX0524SA-HR  Reference: PS
XP Power 6W, 3000 VDC Isolated DC/DC Converter Module, Remote Control, Fully Regulated Single Output Voltage 24V, ±250mA, 5V Input Voltage, SIP; ki_keywords: XP_POWER DC/DC isolated Converter module; ki_fp_filters: *XP?POWER?ITxxxxx*; Footprint: Converter_DCDC:Converter_DCDC_XP_POWER-ITxxxxxS_THT; Datasheet: https://www.xppower.com/pdfs/SF_ITX.pdf; Description_: XP Power 6W, 3000 VDC Isolated DC/DC Converter Module, Remote Control, Fully Regulated Single Output Voltage 24V, ±250mA, 5V Input Voltage, SIP
pins: 1 -Vin, 2 +Vin, 3 OnOff, 5 NC, 6 +Vout, 7 -Vout, 8 NC

## ITX0524SA-R
designator *  value ITX0524SA-R  Reference: PS
XP Power 6W, 1000 VDC Isolated DC/DC Converter Module, Remote Control, Fully Regulated Single Output Voltage 24V, ±250mA, 5V Input Voltage, SIP; ki_keywords: XP_POWER DC/DC isolated Converter module; ki_fp_filters: *XP?POWER?ITxxxxx*; Footprint: Converter_DCDC:Converter_DCDC_XP_POWER-ITxxxxxS_THT; Datasheet: https://www.xppower.com/pdfs/SF_ITX.pdf; Description_: XP Power 6W, 1000 VDC Isolated DC/DC Converter Module, Remote Control, Fully Regulated Single Output Voltage 24V, ±250mA, 5V Input Voltage, SIP
pins: 1 -Vin, 2 +Vin, 3 OnOff, 5 NC, 6 +Vout, 7 -Vout, 8 NC

## ITX1203SA
designator *  value ITX1203SA  Reference: PS
XP Power 6W, 1000 VDC Isolated DC/DC Converter Module, Fully Regulated Single Output Voltage 3.3V, ±1300mA, 12V Input Voltage, SIP; ki_keywords: XP_POWER DC/DC isolated Converter module; ki_fp_filters: *XP?POWER?ITXxxxxSA*; Footprint: Converter_DCDC:Converter_DCDC_XP_POWER-ITXxxxxSA_THT; Datasheet: https://www.xppower.com/pdfs/SF_ITX.pdf; Description_: XP Power 6W, 1000 VDC Isolated DC/DC Converter Module, Fully Regulated Single Output Voltage 3.3V, ±1300mA, 12V Input Voltage, SIP
pins: 1 -Vin, 2 +Vin, 6 +Vout, 7 -Vout, 8 NC

## ITX1203SA-H
designator *  value ITX1203SA-H  Reference: PS
XP Power 6W, 3000 VDC Isolated DC/DC Converter Module, Fully Regulated Single Output Voltage 3.3V, ±1300mA, 12V Input Voltage, SIP; ki_keywords: XP_POWER DC/DC isolated Converter module; ki_fp_filters: *XP?POWER?ITXxxxxSA*; Footprint: Converter_DCDC:Converter_DCDC_XP_POWER-ITXxxxxSA_THT; Datasheet: https://www.xppower.com/pdfs/SF_ITX.pdf; Description_: XP Power 6W, 3000 VDC Isolated DC/DC Converter Module, Fully Regulated Single Output Voltage 3.3V, ±1300mA, 12V Input Voltage, SIP
pins: 1 -Vin, 2 +Vin, 6 +Vout, 7 -Vout, 8 NC

## ITX1203SA-HR
designator *  value ITX1203SA-HR  Reference: PS
XP Power 6W, 3000 VDC Isolated DC/DC Converter Module, Remote Control, Fully Regulated Single Output Voltage 3.3V, ±1300mA, 12V Input Voltage, SIP; ki_keywords: XP_POWER DC/DC isolated Converter module; ki_fp_filters: *XP?POWER?ITxxxxx*; Footprint: Converter_DCDC:Converter_DCDC_XP_POWER-ITxxxxxS_THT; Datasheet: https://www.xppower.com/pdfs/SF_ITX.pdf; Description_: XP Power 6W, 3000 VDC Isolated DC/DC Converter Module, Remote Control, Fully Regulated Single Output Voltage 3.3V, ±1300mA, 12V Input Voltage, SIP
pins: 1 -Vin, 2 +Vin, 3 OnOff, 5 NC, 6 +Vout, 7 -Vout, 8 NC

## ITX1203SA-R
designator *  value ITX1203SA-R  Reference: PS
XP Power 6W, 1000 VDC Isolated DC/DC Converter Module, Remote Control, Fully Regulated Single Output Voltage 3.3V, ±1300mA, 12V Input Voltage, SIP; ki_keywords: XP_POWER DC/DC isolated Converter module; ki_fp_filters: *XP?POWER?ITxxxxx*; Footprint: Converter_DCDC:Converter_DCDC_XP_POWER-ITxxxxxS_THT; Datasheet: https://www.xppower.com/pdfs/SF_ITX.pdf; Description_: XP Power 6W, 1000 VDC Isolated DC/DC Converter Module, Remote Control, Fully Regulated Single Output Voltage 3.3V, ±1300mA, 12V Input Voltage, SIP
pins: 1 -Vin, 2 +Vin, 3 OnOff, 5 NC, 6 +Vout, 7 -Vout, 8 NC

## ITX1205S
designator *  value ITX1205S  Reference: PS
XP Power 6W, 1000 VDC Isolated DC/DC Converter Module, Fully Regulated Dual Output Voltage ±5V, ±600mA, 12V Input Voltage, SIP; ki_keywords: XP_POWER DC/DC isolated Converter module; ki_fp_filters: *XP?POWER?ITxxxxx*; Footprint: Converter_DCDC:Converter_DCDC_XP_POWER-ITxxxxxS_THT; Datasheet: https://www.xppower.com/pdfs/SF_ITX.pdf; Description_: XP Power 6W, 1000 VDC Isolated DC/DC Converter Module, Fully Regulated Dual Output Voltage ±5V, ±600mA, 12V Input Voltage, SIP
pins: 1 -Vin, 2 +Vin, 3 NC, 5 NC, 6 +Vout, 7 Common, 8 -Vout

## ITX1205S-H
designator *  value ITX1205S-H  Reference: PS
XP Power 6W, 3000 VDC Isolated DC/DC Converter Module, Fully Regulated Dual Output Voltage ±5V, ±600mA, 12V Input Voltage, SIP; ki_keywords: XP_POWER DC/DC isolated Converter module; ki_fp_filters: *XP?POWER?ITxxxxx*; Footprint: Converter_DCDC:Converter_DCDC_XP_POWER-ITxxxxxS_THT; Datasheet: https://www.xppower.com/pdfs/SF_ITX.pdf; Description_: XP Power 6W, 3000 VDC Isolated DC/DC Converter Module, Fully Regulated Dual Output Voltage ±5V, ±600mA, 12V Input Voltage, SIP
pins: 1 -Vin, 2 +Vin, 3 NC, 5 NC, 6 +Vout, 7 Common, 8 -Vout

## ITX1205S-HR
designator *  value ITX1205S-HR  Reference: PS
XP Power 6W, 3000 VDC Isolated DC/DC Converter Module, Remote Control, Fully Regulated Dual Output Voltage ±5V, ±600mA, 12V Input Voltage, SIP; ki_keywords: XP_POWER DC/DC isolated Converter module; ki_fp_filters: *XP?POWER?ITxxxxx*; Footprint: Converter_DCDC:Converter_DCDC_XP_POWER-ITxxxxxS_THT; Datasheet: https://www.xppower.com/pdfs/SF_ITX.pdf; Description_: XP Power 6W, 3000 VDC Isolated DC/DC Converter Module, Remote Control, Fully Regulated Dual Output Voltage ±5V, ±600mA, 12V Input Voltage, SIP
pins: 1 -Vin, 2 +Vin, 3 OnOff, 5 NC, 6 +Vout, 7 Common, 8 -Vout

## ITX1205S-R
designator *  value ITX1205S-R  Reference: PS
XP Power 6W, 1000 VDC Isolated DC/DC Converter Module, Remote Control, Fully Regulated Dual Output Voltage ±5V, ±600mA, 12V Input Voltage, SIP; ki_keywords: XP_POWER DC/DC isolated Converter module; ki_fp_filters: *XP?POWER?ITxxxxx*; Footprint: Converter_DCDC:Converter_DCDC_XP_POWER-ITxxxxxS_THT; Datasheet: https://www.xppower.com/pdfs/SF_ITX.pdf; Description_: XP Power 6W, 1000 VDC Isolated DC/DC Converter Module, Remote Control, Fully Regulated Dual Output Voltage ±5V, ±600mA, 12V Input Voltage, SIP
pins: 1 -Vin, 2 +Vin, 3 OnOff, 5 NC, 6 +Vout, 7 Common, 8 -Vout

## ITX1205SA
designator *  value ITX1205SA  Reference: PS
XP Power 6W, 1000 VDC Isolated DC/DC Converter Module, Fully Regulated Single Output Voltage 5V, ±1200mA, 12V Input Voltage, SIP; ki_keywords: XP_POWER DC/DC isolated Converter module; ki_fp_filters: *XP?POWER?ITXxxxxSA*; Footprint: Converter_DCDC:Converter_DCDC_XP_POWER-ITXxxxxSA_THT; Datasheet: https://www.xppower.com/pdfs/SF_ITX.pdf; Description_: XP Power 6W, 1000 VDC Isolated DC/DC Converter Module, Fully Regulated Single Output Voltage 5V, ±1200mA, 12V Input Voltage, SIP
pins: 1 -Vin, 2 +Vin, 6 +Vout, 7 -Vout, 8 NC

## ITX1205SA-H
designator *  value ITX1205SA-H  Reference: PS
XP Power 6W, 3000 VDC Isolated DC/DC Converter Module, Fully Regulated Single Output Voltage 5V, ±1200mA, 12V Input Voltage, SIP; ki_keywords: XP_POWER DC/DC isolated Converter module; ki_fp_filters: *XP?POWER?ITXxxxxSA*; Footprint: Converter_DCDC:Converter_DCDC_XP_POWER-ITXxxxxSA_THT; Datasheet: https://www.xppower.com/pdfs/SF_ITX.pdf; Description_: XP Power 6W, 3000 VDC Isolated DC/DC Converter Module, Fully Regulated Single Output Voltage 5V, ±1200mA, 12V Input Voltage, SIP
pins: 1 -Vin, 2 +Vin, 6 +Vout, 7 -Vout, 8 NC

## ITX1205SA-HR
designator *  value ITX1205SA-HR  Reference: PS
XP Power 6W, 3000 VDC Isolated DC/DC Converter Module, Remote Control, Fully Regulated Single Output Voltage 5V, ±1200mA, 12V Input Voltage, SIP; ki_keywords: XP_POWER DC/DC isolated Converter module; ki_fp_filters: *XP?POWER?ITxxxxx*; Footprint: Converter_DCDC:Converter_DCDC_XP_POWER-ITxxxxxS_THT; Datasheet: https://www.xppower.com/pdfs/SF_ITX.pdf; Description_: XP Power 6W, 3000 VDC Isolated DC/DC Converter Module, Remote Control, Fully Regulated Single Output Voltage 5V, ±1200mA, 12V Input Voltage, SIP
pins: 1 -Vin, 2 +Vin, 3 OnOff, 5 NC, 6 +Vout, 7 -Vout, 8 NC